# Altium footprint library Gan_cuk converter.PcbLib: 51 footprints (part 1 of 4)
Each footprint in its own frame and in the unit in brackets; x right, y up, seen from the top. Pads: shape width x height; smd on the part's side, far side on the other; paste and mask are expansions set on the pad; w line width, h text height; cw(c..) or ccw(c..) is an arc to the next point about the centre after c.
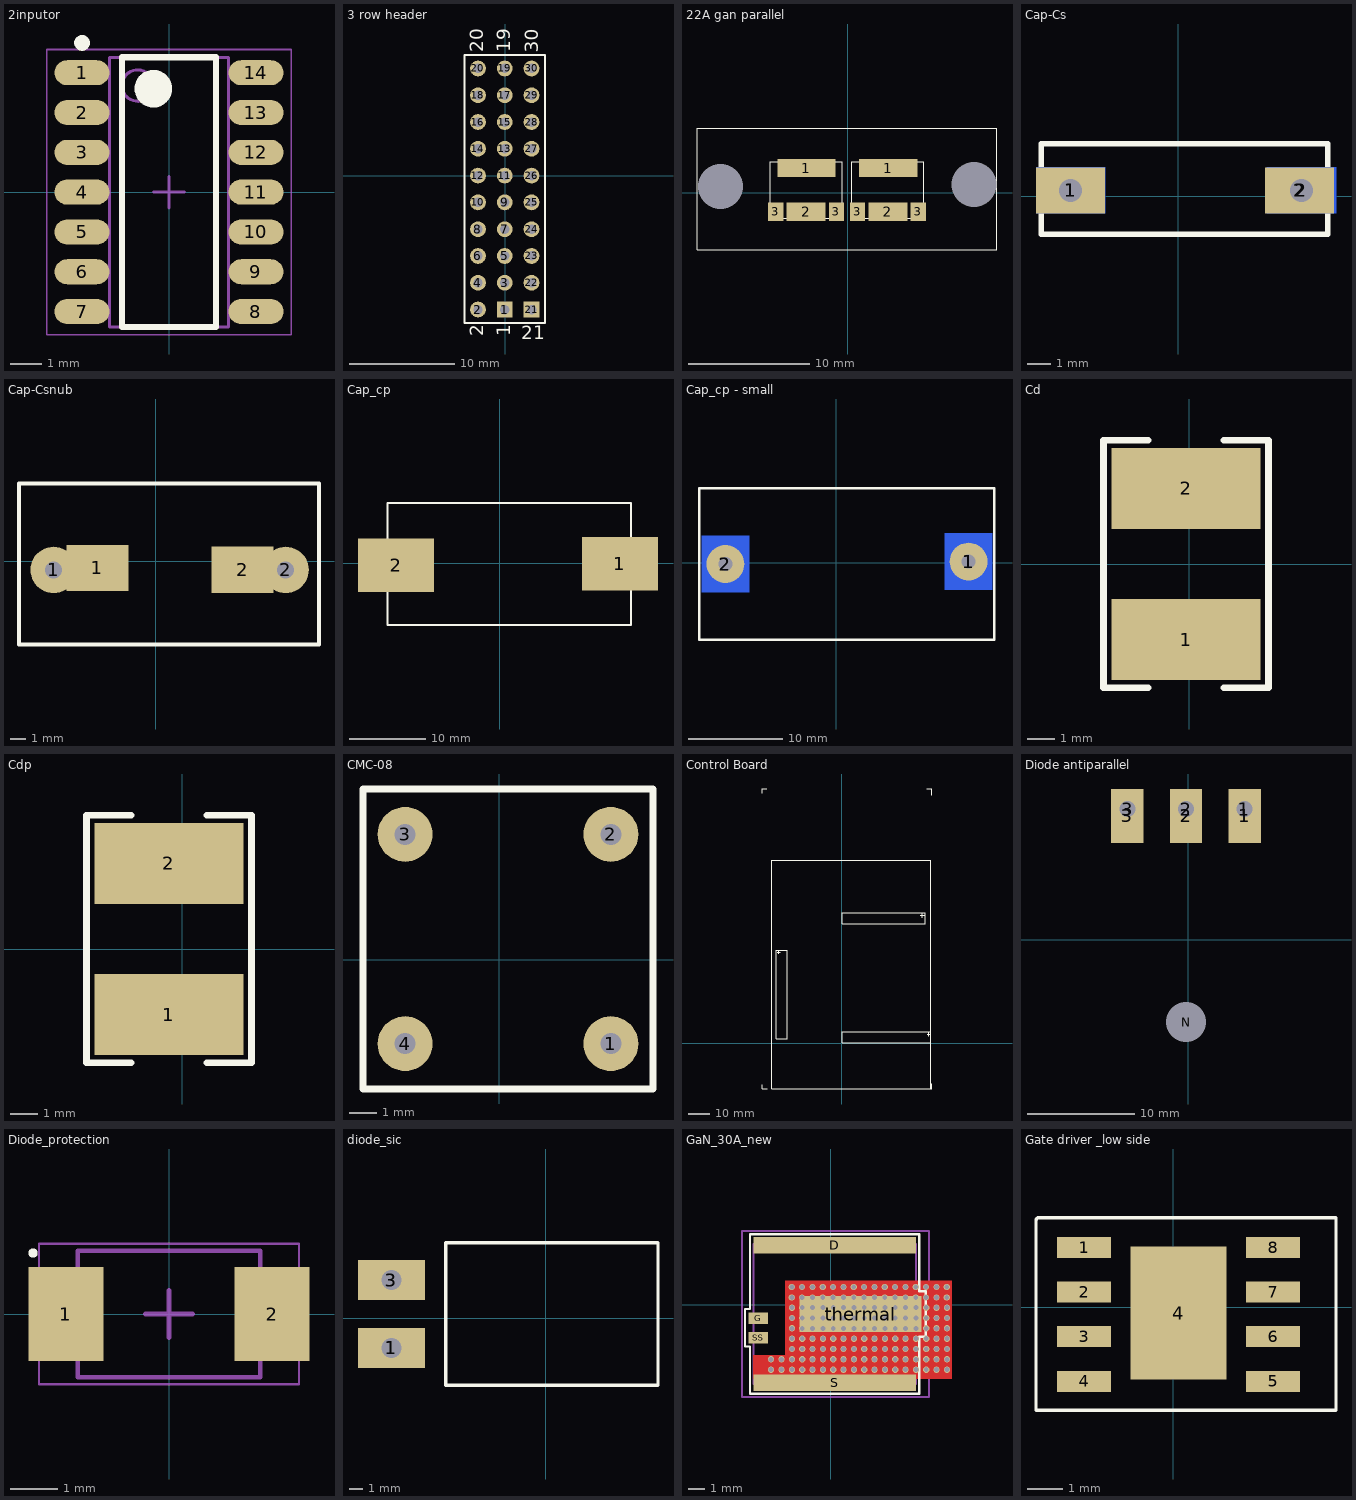
[diagram p0: the footprints below, top view; thin cyan lines are the x and y axes]

## 2inputor [mm]
height 1.75
pads (14):
  oval 1.75x0.8 smd: 1(-2.775,3.81) 2(-2.775,2.54) 3(-2.775,1.27) 4(-2.775,0) 5(-2.775,-1.27) 6(-2.775,-2.54) 7(-2.775,-3.81) 8(2.775,-3.81) 9(2.775,-2.54) 10(2.775,-1.27) 11(2.775,0) 12(2.775,1.27) 13(2.775,2.54) 14(2.775,3.81)
Top Overlay:
  circle w0.6: c-0.5,3.3 r0.3
  circle w0.25: c-2.775,4.76 r0.125
  lines w0.2: -1.5,-4.3 1.5,-4.3 1.5,4.3 -1.5,4.3 -1.5,-4.3
Mechanical 13:
  circle w0.1: c-1,3.4 r0.5
  lines w0.1: -1.9,-4.3 1.9,-4.3 1.9,4.3 -1.9,4.3 -1.9,-4.3
Mechanical 15:
  lines w0.05: -3.9,-4.55 3.9,-4.55 3.9,4.55 -3.9,4.55 -3.9,-4.55
  lines w0.1: -0.5,0 0.5,0 ; 0,-0.5 0,0.5
3D body: height 1.75, standoff 0.25, extent -1.9,-4.3 1.9,4.3

## 3 row header [mm]
height 5
pads (30):
  rect 1.5x1.5 hole 0.9: 1(-0.025,-12.697) 21(2.515,-12.697)
  round 1.5 hole 0.9: 2(-2.565,-12.697) 3(-0.025,-10.157) 4(-2.565,-10.157) 5(-0.025,-7.617) 6(-2.565,-7.617) 7(-0.025,-5.077) 8(-2.565,-5.077) 9(-0.025,-2.537) 10(-2.565,-2.537) 11(-0.025,0.003) 12(-2.565,0.003) 13(-0.025,2.543) 14(-2.565,2.543) 15(-0.025,5.083) 16(-2.565,5.083) 17(-0.025,7.623) 18(-2.565,7.623) 19(-0.025,10.163) 20(-2.565,10.163) 22(2.515,-10.157) 23(2.515,-7.617) 24(2.515,-5.077) 25(2.515,-2.537) 26(2.515,0.003) 27(2.515,2.543) 28(2.515,5.083) 29(2.515,7.623) 30(2.515,10.163)
Top Overlay:
  lines w0.2: -3.835,-13.967 -3.835,-12.062 -3.835,11.433 1.245,11.433 3.785,11.433 3.785,-13.967 1.245,-13.967 -3.835,-13.967
  text "30" at 3.125,11.675 h1.27
  text "21" at 1.537,-15.493 h1.27
  text "2" at -2.057,-15.237 h1.27
  text "1" at 0.483,-15.237 h1.27
  text "19" at 0.483,11.687 h1.27
  text "20" at -2.057,11.687 h1.27

## 22A gan parallel [mm]
pads (10):
  rect 4.8x1.5 smd: 1(-3.425,2.025) 1(3.325,2.025)
  rect 3.23x1.5 smd: 2(-3.45,-1.575) 2(3.3,-1.575)
  rect 1.25x1.5 smd: 3(-5.95,-1.575) 3(-0.95,-1.575) 3(0.8,-1.575) 3(5.8,-1.575)
  rect 0x0 hole 3.7: ""(-10.525,0.5) ""(10.4,0.675)
Top Overlay:
  lines w0.025: -6.425,-2.1 -6.425,2.547 -0.475,2.547 -0.475,-2.1 -6.425,-2.1 ; 0.325,-2.1 6.275,-2.1 6.275,2.547 0.325,2.547 0.325,-2.1
  lines w0.1: -12.45,-4.7 -12.45,5.3 12.3,5.3 12.3,-4.7 -12.45,-4.7
3D body: height 0.5, standoff 0, extent 0.073,-2.427 6.527,2.877
3D body: height 0.5, standoff 0, extent -6.677,-2.427 -0.223,2.877
3D body: height 25.4, standoff 0.5, extent -12.5,-4.75 12.225,5.35

## Cap-Cs [mm]
pads (6):
  rect 2x2 hole 1: 1(-4.674,0.254) 2(5.359,0.254)
  rect 3x2 smd: 1(-4.674,0.254) 2(5.279,0.254)
  rect 3x2 smd far side: 1(-4.674,0.254) 2(5.359,0.254)
Top Overlay:
  lines w0.254: -5.944,-1.651 -5.944,2.286 -5.436,2.286 6.502,2.286 6.502,-1.651 -5.944,-1.651
3D body: height 12.7, standoff 0, extent -6.276,-0.848 6.961,1.356

## Cap-Csnub [mm]
pads (4):
  round 3 hole 1.1: 1(-6.607,-0.56) 2(8.421,-0.56)
  rect 4x3 smd: 1(-3.771,-0.433) 2(5.627,-0.56)
Top Overlay:
  lines w0.254: 10.453,-5.386 -8.851,-5.386 -8.851,5.028 10.58,5.028 10.58,3.885 10.58,-5.386
3D body: height 13.77, standoff 0, extent -8.209,-2.162 10.023,1.042

## Cap_cp [mm]
pads (2):
  rect 10x7 smd: 1(15.824,-0.102) 2(-13.614,-0.279)
Top Overlay:
  lines w0.254: -14.757,-8.128 -14.757,7.874 17.247,7.874 17.247,-8.128 -14.757,-8.128
3D body: height 22.78, standoff 0, extent -14.884,-8.255 17.374,8.001

## Cap_cp - small [mm]
pads (4):
  round 4 hole 1.5: 1(13.975,0.125) 2(-11.746,-0.127)
  rect 5x6 smd far side: 1(13.975,0.125) 2(-11.746,-0.127)
Top Overlay:
  lines w0.254: -14.5,-8.128 16.675,-8.128 16.675,7.874 -14.5,7.874 -14.5,-8.128
3D body: height 22.78, standoff 0, extent -14.35,-8.255 16.5,8.001

## Cd [mm]
pads (2):
  rect 5.5x3 smd: 1(-0.127,-2.794) 2(-0.127,2.794)
Top Overlay:
  lines w0.254: -1.524,-4.572 -3.175,-4.572 -3.175,4.572 -1.524,4.572 ; 1.27,-4.572 2.921,-4.572 2.921,4.572 1.27,4.572

## Cdp [mm]
pads (2):
  rect 5.5x3 smd: 1(-0.483,-2.413) 2(-0.483,3.175)
Top Overlay:
  lines w0.254: -1.88,-4.191 -3.531,-4.191 -3.531,4.953 -1.88,4.953 ; 0.914,-4.191 2.565,-4.191 2.565,4.953 0.914,4.953

## CMC-08 [mil] "common mode coke"
height 348.43
pads (4):
  round 78.74 hole 30: 1(160,-120) 2(160,180) 3(-135,180) 4(-135,-120)
Top Overlay:
  lines w10: -195,-185 220,-185 220,-87.5 220,127.5 220,245 -195,245 -195,-185

## Control Board [mm]
Top Overlay:
  lines w0.1: -32.169,84.02 40.869,84.02 40.869,-20.93 -32.169,-20.93 -32.169,84.045
  lines w0.2: -30.099,1.88 -30.099,42.694 -25.019,42.694 -25.019,1.88 -30.099,1.88 ; 0.076,0.025 0.076,5.105 40.89,5.105 40.89,0.025 0.076,0.025 ; 0.131,54.881 38.329,54.881 38.329,59.961 0.131,59.961 0.131,54.881
  lines w0.254: -29.65,41.703 -28.203,41.703 ; -28.939,41.043 -28.939,42.313 ; 35.945,58.691 38.104,58.691 ; 36.961,57.675 36.961,59.961 ; 39.239,3.946 40.509,3.946 ; 39.9,3.209 39.9,4.657
  lines w0.3: -36.669,-19.116 -36.669,-21.118 -34.189,-21.118 ; -36.669,114.734 -36.669,116.766 -34.413,116.766 ; 38.968,116.766 41.381,116.766 41.381,113.845 ; 39.246,-21.1 41.405,-21.1 41.405,-18.717
3D body: height 50.8, standoff 22.86, extent -31.572,-26.34 32.006,-21.26
3D body: height 50.8, standoff 22.86, extent -36.669,-21.072 41.413,116.766
3D body: height 20.32, standoff 10, extent -32.016,-20.953 40.97,83.996

## Diode antiparallel [mm]
pads (7):
  rect 2.5x2.5 hole 1.5: 1(5.25,12.149)
  rect 3x5 smd: 1(5.271,11.514) 2(-0.19,11.514) 3(-5.651,11.514)
  round 2.5 hole 1.5: 2(-0.19,12.149) 3(-5.63,12.149)
  round 1.5 / inner round 2.5 / far side round 2.5 hole 3.7: N(-0.19,-7.663)
Bottom Overlay:
  lines w0.254: -8.318,-13.886 7.938,-13.886 7.938,7.069 -8.318,7.069 -8.318,-13.886
3D body: height 5.08, standoff 0, extent -8.445,-14.013 8.065,7.196

## Diode_protection [mm] "SODFL, 2-Leads, Body 2.50x4.70mm, IPC Medium Density"
height 1.1
pads (2):
  rect 1.6x2 smd: 1(-2.2,0) 2(2.2,0)
Top Overlay:
  circle w0.1: c-2.9,1.3 r0.05
Mechanical 13:
  lines w0.1: -1.95,-1.35 1.95,-1.35 1.95,1.35 -1.95,1.35 -1.95,-1.35
Mechanical 15:
  lines w0.05: -2.775,-1.5 2.775,-1.5 2.775,1.5 -2.775,1.5 -2.775,-1.5
  lines w0.1: -0.5,0 0.5,0 ; 0,-0.5 0,0.5
3D body: height 1.1, standoff 0, extent -1.95,-1.35 1.95,1.35

## diode_sic [mm]
pads (4):
  rect 2.5x2.5 hole 1.5: 1(-11.557,-2.209)
  rect 5x3 smd: 1(-11.557,-2.209) 3(-11.557,2.871)
  round 3 hole 1.5: 3(-11.557,2.871)
Top Overlay:
  lines w0.254: -7.493,-5.003 -7.493,5.665 8.382,5.665 8.382,-5.003 -7.493,-5.003

## GaN_30A_new [mm]
pads (5):
  rect 10x1 smd paste+0 mask+0.01: D(0.229,3.662) S(0.229,-4.778)
  rect 1.2x0.7 smd paste+0 mask+0.01: G(-4.471,-0.808) SS(-4.471,-2.008)
  rect 7.5x2.23 smd paste+0 mask+0.01: thermal(1.829,-0.558)
via -3.045,-3.98 diameter 0.381 hole 0.305
via -3.045,-3.345 diameter 0.381 hole 0.305
via -3.68,-3.98 diameter 0.381 hole 0.305
via -3.68,-3.345 diameter 0.381 hole 0.305
via 7.12,0.465 diameter 0.381 hole 0.305
via 7.12,1.1 diameter 0.381 hole 0.305
via 6.485,0.465 diameter 0.381 hole 0.305
via 6.485,1.1 diameter 0.381 hole 0.305
via 5.85,0.465 diameter 0.381 hole 0.305
via 5.85,1.1 diameter 0.381 hole 0.305
via 5.215,0.465 diameter 0.381 hole 0.305
via 5.215,1.1 diameter 0.381 hole 0.305
via 4.58,0.465 diameter 0.381 hole 0.305
via 4.58,1.1 diameter 0.381 hole 0.305
via 3.945,0.465 diameter 0.381 hole 0.305
via 3.945,1.1 diameter 0.381 hole 0.305
via 3.31,0.465 diameter 0.381 hole 0.305
via 3.31,1.1 diameter 0.381 hole 0.305
via 2.675,0.465 diameter 0.381 hole 0.305
via 2.675,1.1 diameter 0.381 hole 0.305
via 2.04,0.465 diameter 0.381 hole 0.305
via 2.04,1.1 diameter 0.381 hole 0.305
via 1.405,0.465 diameter 0.381 hole 0.305
via 1.405,1.1 diameter 0.381 hole 0.305
via 0.77,0.465 diameter 0.381 hole 0.305
via 0.77,1.1 diameter 0.381 hole 0.305
via 0.135,0.465 diameter 0.381 hole 0.305
via 0.135,1.1 diameter 0.381 hole 0.305
via -0.5,0.465 diameter 0.381 hole 0.305
via -0.5,1.1 diameter 0.381 hole 0.305
via -1.135,0.465 diameter 0.381 hole 0.305
via -1.135,1.1 diameter 0.381 hole 0.305
via -1.77,0.465 diameter 0.381 hole 0.305
via -1.77,1.1 diameter 0.381 hole 0.305
via -2.405,0.465 diameter 0.381 hole 0.305
via -2.405,1.1 diameter 0.381 hole 0.305
via -2.395,-0.17 diameter 0.381 hole 0.305
via -2.395,-0.805 diameter 0.381 hole 0.305
via -2.395,-1.44 diameter 0.381 hole 0.305
via -2.395,-2.075 diameter 0.381 hole 0.305
via -2.395,-2.71 diameter 0.381 hole 0.305
via -2.395,-3.345 diameter 0.381 hole 0.305
via -2.395,-3.98 diameter 0.381 hole 0.305
via -1.76,-0.17 diameter 0.381 hole 0.305
via -1.76,-0.805 diameter 0.381 hole 0.305
via -1.76,-1.44 diameter 0.381 hole 0.305
via -1.76,-2.075 diameter 0.381 hole 0.305
via -1.76,-2.71 diameter 0.381 hole 0.305
via -1.76,-3.345 diameter 0.381 hole 0.305
via -1.76,-3.98 diameter 0.381 hole 0.305
via -1.125,-0.17 diameter 0.381 hole 0.305
via -1.125,-0.805 diameter 0.381 hole 0.305
via -1.125,-1.44 diameter 0.381 hole 0.305
via -1.125,-2.075 diameter 0.381 hole 0.305
via -1.125,-2.71 diameter 0.381 hole 0.305
via -1.125,-3.345 diameter 0.381 hole 0.305
via -1.125,-3.98 diameter 0.381 hole 0.305
via -0.49,-0.17 diameter 0.381 hole 0.305
via -0.49,-0.805 diameter 0.381 hole 0.305
via -0.49,-1.44 diameter 0.381 hole 0.305
via -0.49,-2.075 diameter 0.381 hole 0.305
via -0.49,-2.71 diameter 0.381 hole 0.305
via -0.49,-3.345 diameter 0.381 hole 0.305
via -0.49,-3.98 diameter 0.381 hole 0.305
via 0.145,-0.17 diameter 0.381 hole 0.305
via 0.145,-0.805 diameter 0.381 hole 0.305
via 0.145,-1.44 diameter 0.381 hole 0.305
via 0.145,-2.075 diameter 0.381 hole 0.305
via 0.145,-2.71 diameter 0.381 hole 0.305
via 0.145,-3.345 diameter 0.381 hole 0.305
via 0.145,-3.98 diameter 0.381 hole 0.305
via 0.78,-0.17 diameter 0.381 hole 0.305
via 0.78,-0.805 diameter 0.381 hole 0.305
via 0.78,-1.44 diameter 0.381 hole 0.305
via 0.78,-2.075 diameter 0.381 hole 0.305
via 0.78,-2.71 diameter 0.381 hole 0.305
via 0.78,-3.345 diameter 0.381 hole 0.305
via 0.78,-3.98 diameter 0.381 hole 0.305
via 1.415,-0.17 diameter 0.381 hole 0.305
via 1.415,-0.805 diameter 0.381 hole 0.305
via 1.415,-1.44 diameter 0.381 hole 0.305
via 1.415,-2.075 diameter 0.381 hole 0.305
via 1.415,-2.71 diameter 0.381 hole 0.305
via 1.415,-3.345 diameter 0.381 hole 0.305
via 1.415,-3.98 diameter 0.381 hole 0.305
via 2.05,-0.17 diameter 0.381 hole 0.305
via 2.05,-0.805 diameter 0.381 hole 0.305
via 2.05,-1.44 diameter 0.381 hole 0.305
via 2.05,-2.075 diameter 0.381 hole 0.305
via 2.05,-2.71 diameter 0.381 hole 0.305
via 2.05,-3.345 diameter 0.381 hole 0.305
via 2.05,-3.98 diameter 0.381 hole 0.305
via 2.685,-0.17 diameter 0.381 hole 0.305
via 2.685,-0.805 diameter 0.381 hole 0.305
via 2.685,-1.44 diameter 0.381 hole 0.305
via 2.685,-2.075 diameter 0.381 hole 0.305
via 2.685,-2.71 diameter 0.381 hole 0.305
via 2.685,-3.345 diameter 0.381 hole 0.305
via 2.685,-3.98 diameter 0.381 hole 0.305
via 3.32,-0.17 diameter 0.381 hole 0.305
via 3.32,-0.805 diameter 0.381 hole 0.305
via 3.32,-1.44 diameter 0.381 hole 0.305
via 3.32,-2.075 diameter 0.381 hole 0.305
via 3.32,-2.71 diameter 0.381 hole 0.305
via 3.32,-3.345 diameter 0.381 hole 0.305
via 3.32,-3.98 diameter 0.381 hole 0.305
via 3.955,-0.17 diameter 0.381 hole 0.305
via 3.955,-0.805 diameter 0.381 hole 0.305
via 3.955,-1.44 diameter 0.381 hole 0.305
via 3.955,-2.075 diameter 0.381 hole 0.305
via 3.955,-2.71 diameter 0.381 hole 0.305
via 3.955,-3.345 diameter 0.381 hole 0.305
via 3.955,-3.98 diameter 0.381 hole 0.305
via 4.59,-0.17 diameter 0.381 hole 0.305
via 4.59,-0.805 diameter 0.381 hole 0.305
via 4.59,-1.44 diameter 0.381 hole 0.305
via 4.59,-2.075 diameter 0.381 hole 0.305
via 4.59,-2.71 diameter 0.381 hole 0.305
via 4.59,-3.345 diameter 0.381 hole 0.305
via 4.59,-3.98 diameter 0.381 hole 0.305
via 5.225,-0.17 diameter 0.381 hole 0.305
via 5.225,-0.805 diameter 0.381 hole 0.305
via 5.225,-1.44 diameter 0.381 hole 0.305
via 5.225,-2.075 diameter 0.381 hole 0.305
via 5.225,-2.71 diameter 0.381 hole 0.305
via 5.225,-3.345 diameter 0.381 hole 0.305
via 5.225,-3.98 diameter 0.381 hole 0.305
via 5.86,-0.17 diameter 0.381 hole 0.305
via 5.86,-0.805 diameter 0.381 hole 0.305
via 5.86,-1.44 diameter 0.381 hole 0.305
via 5.86,-2.075 diameter 0.381 hole 0.305
via 5.86,-2.71 diameter 0.381 hole 0.305
via 5.86,-3.345 diameter 0.381 hole 0.305
via 5.86,-3.98 diameter 0.381 hole 0.305
via 6.495,-0.17 diameter 0.381 hole 0.305
via 6.495,-0.805 diameter 0.381 hole 0.305
via 6.495,-1.44 diameter 0.381 hole 0.305
via 6.495,-2.075 diameter 0.381 hole 0.305
via 6.495,-2.71 diameter 0.381 hole 0.305
via 6.495,-3.345 diameter 0.381 hole 0.305
via 6.495,-3.98 diameter 0.381 hole 0.305
via 7.13,-0.17 diameter 0.381 hole 0.305
via 7.13,-0.805 diameter 0.381 hole 0.305
via 7.13,-1.44 diameter 0.381 hole 0.305
via 7.13,-2.075 diameter 0.381 hole 0.305
via 7.13,-2.71 diameter 0.381 hole 0.305
via 7.13,-3.345 diameter 0.381 hole 0.305
via 7.13,-3.98 diameter 0.381 hole 0.305
Top Layer:
  rectangle: -2.825,-3.1 7.45,1.5
  rectangle: -4.775,-4.55 7.45,-3.075
Top Overlay:
  lines w0.127: -5.271,-2.558 -4.971,-2.558 -4.971,-5.458 5.429,-5.458 5.429,-1.958 5.829,-1.958 5.829,0.842 5.429,0.842 5.429,4.342 -4.971,4.342 -4.971,-0.258 -5.271,-0.258 -5.271,-2.558
Mechanical 13:
  lines w0.127: -4.771,-4.87 5.229,-4.87 5.229,3.755 -4.771,3.755 -4.771,-4.87
Mechanical 15:
  lines w0.127: -0.406,-0.558 0.864,-0.558 ; 0.229,-1.193 0.229,0.077 ; -5.471,-5.658 6.029,-5.658 6.029,4.542 -5.471,4.542 -5.471,-0.658 -5.471,-5.658
3D body: height 0.45, standoff 0, extent -4.771,-4.87 5.229,3.755

## Gate driver _low side [mm]
pads (9):
  rect 1.55x0.6 smd: 1(-2.55,1.7) 2(-2.55,0.425) 3(-2.55,-0.85) 4(-2.55,-2.125) 5(2.85,-2.125) 6(2.85,-0.85) 7(2.85,0.425) 8(2.85,1.7)
  rect 2.74x3.8 smd: 4(0.15,-0.175)
Top Overlay:
  lines w0.1: -3.925,-2.95 -3.925,2.5 -3.875,2.55 4.65,2.55 4.65,-2.95 -3.925,-2.95